# Altium footprint library OBDII-components.PcbLib: 36 footprints (part 3 of 3)
Each footprint in its own frame and in the unit in brackets; x right, y up, seen from the top. Pads: shape width x height; smd on the part's side, far side on the other; paste and mask are expansions set on the pad; w line width, h text height; cw(c..) or ccw(c..) is an arc to the next point about the centre after c.
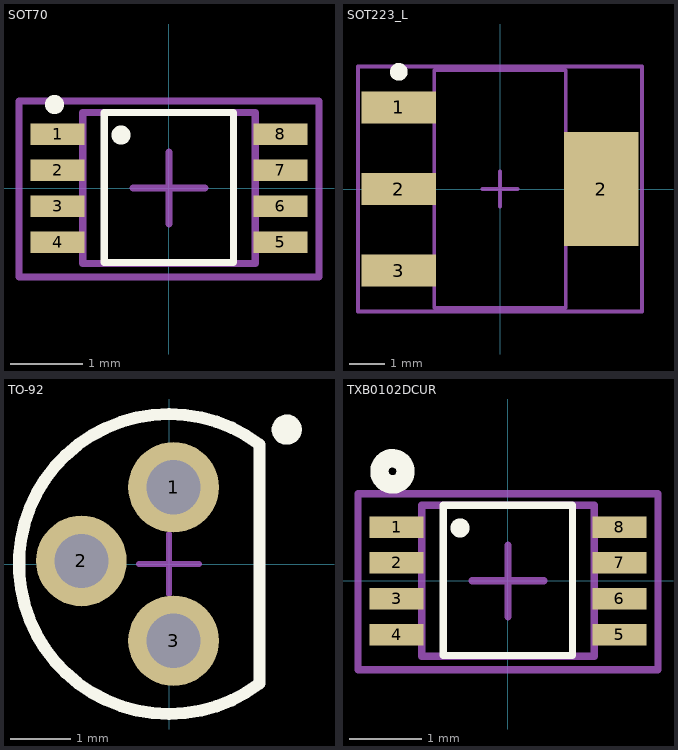
[diagram p2: the footprints below, top view; thin cyan lines are the x and y axes]

## SOT70 [mm] "2-Bit Bidirectional Voltage-Level Translator with Auto Direction Sensing and +/-15-kV ESD Protect"
height 1
pads (8):
  rect 0.75x0.3 smd mask+0.04: 1(-1.55,0.75) 2(-1.55,0.25) 3(-1.55,-0.25) 4(-1.55,-0.75) 5(1.55,-0.75) 6(1.55,-0.25) 7(1.55,0.25) 8(1.55,0.75)
Top Overlay:
  circle w0.254: c-0.667,0.739 r0.005
  circle w0.254: c-1.592,1.164 r0.005
  lines w0.1: 0.899,-1.036 -0.9,-1.036 -0.9,1.052 0.9,1.052 0.9,-1.035
Mechanical 1:
  text ".Designator" at 0.138,-2.411 h0.64
Mechanical 13:
  lines w0.1: -1.2,-1.048 1.2,-1.048 1.2,1.052 -1.2,1.052 -1.2,-1.048
Mechanical 15:
  lines w0.1: -0.5,0.002 0.5,0.002 ; 0,-0.498 0,0.502 ; -2.087,-1.236 -2.087,1.214 2.088,1.214 2.088,-1.236 -2.087,-1.236
3D body: height 0.9, standoff 0.1, extent -1.2,-1.048 1.2,1.052

## SOT223_L [mm] "SOT223, 4-Leads, Body 6.5x3.5mm, Pitch 2.3mm, Lead Span 7mm, IPC High Density"
height 1.7
pads (4):
  rect 2.1x0.9 smd: 1(-2.85,2.3) 2(-2.85,0) 3(-2.85,-2.3)
  rect 2.1x3.2 smd: 2(2.85,0)
Top Overlay:
  circle w0.25: c-2.85,3.3 r0.125
Mechanical 13:
  lines w0.1: -1.85,-3.35 1.85,-3.35 1.85,3.35 -1.85,3.35 -1.85,-3.35
Mechanical 15:
  lines w0.1: -0.5,0 0.5,0 ; 0,-0.5 0,0.5 ; -4,-3.45 4,-3.45 4,3.45 -4,3.45 -4,-3.45
3D body: height 1.7, standoff 0, extent -1.85,-3.35 1.85,3.35

## TO-92 [mm] "TO, Flat Index; 3 In-Line, Axial Leads; Body Dia. 4.5mm; Leads 0.51 x 0.48 mm (max)"
height 6.86
pads (3):
  round 1.5 hole 0.9: 1(0.075,1.27) 2(-1.45,0.05) 3(0.075,-1.27)
Top Overlay:
  circle w0.25: c1.95,2.225 r0.125
  lines w0.2: 1.5,-1.98 cw(c0,0) 1.5,1.98 1.5,-1.98
Mechanical 13:
  lines w0.1: 1.5,-1.98 cw(c0,0) 1.5,1.98 1.5,-1.98
Mechanical 15:
  lines w0.1: -0.5,0 0.5,0 ; 0,-0.5 0,0.5
3D body: height 6.86, standoff 2.2, extent -2.497,-2.497 1.501,2.497

## TXB0102DCUR [mm] "2-Bit Bidirectional Voltage-Level Translator with Auto Direction Sensing and +/-15-kV ESD Protect"
height 1
pads (8):
  rect 0.75x0.3 smd mask+0.04: 1(-1.55,0.75) 2(-1.55,0.25) 3(-1.55,-0.25) 4(-1.55,-0.75) 5(1.55,-0.75) 6(1.55,-0.25) 7(1.55,0.25) 8(1.55,0.75)
Top Overlay:
  circle w0.254: c-1.607,1.525 r0.182
  circle w0.254: c-0.667,0.739 r0.005
  lines w0.1: 0.899,-1.036 -0.9,-1.036 -0.9,1.052 0.9,1.052 0.9,-1.035
Mechanical 1:
  text ".Designator" at 0.138,-2.411 h0.64
Mechanical 13:
  lines w0.1: -1.2,-1.048 -1.2,1.052 1.2,1.052 1.2,-1.048 -1.2,-1.048
Mechanical 15:
  lines w0.1: -0.5,0.002 0.5,0.002 ; 0,-0.498 0,0.502 ; -2.087,-1.236 2.088,-1.236 2.088,1.214 -2.087,1.214 -2.087,-1.236
3D body: height 0.9, standoff 0.1, extent -1.2,-1.048 1.2,1.052